# Altium schematic symbol library U.FL-R-SMT_10_.SchLib: 1 symbol
Pins are listed as number, name and electrical type; pins without a type are passive.

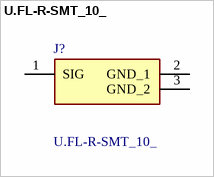
[diagram p0: symbol U.FL-R-SMT_10_]

## U.FL-R-SMT_10_
designator J?
U.FL (UMCC) Connector Receptacle, Male Pin 50 Ohms Surface Mount Solder; Manufacturer_Name: Hirose; Manufacturer_Part_Number: U.FL-R-SMT(10); Geometry.Height: 1.45mm; Mouser Part Number: 798-U.FL-R-SMT10; Mouser Price/Stock: https://www.mouser.co.uk/ProductDetail/Hirose-Connector/U.FL-R-SMT10?qs=Ux3WWAnHpjBT1CWD8UMEMQ%3D%3D; Datasheet Link: *
footprint UFLRSMT10
pins: 1 SIG, 2 GND_1, 3 GND_2